# Altium footprint library AMP Footprints.PcbLib: 903 footprints (part 19 of 58)
Each footprint in its own frame and in the unit in brackets; x right, y up, seen from the top. Pads: shape width x height; smd on the part's side, far side on the other; paste and mask are expansions set on the pad; w line width, h text height; cw(c..) or ccw(c..) is an arc to the next point about the centre after c.
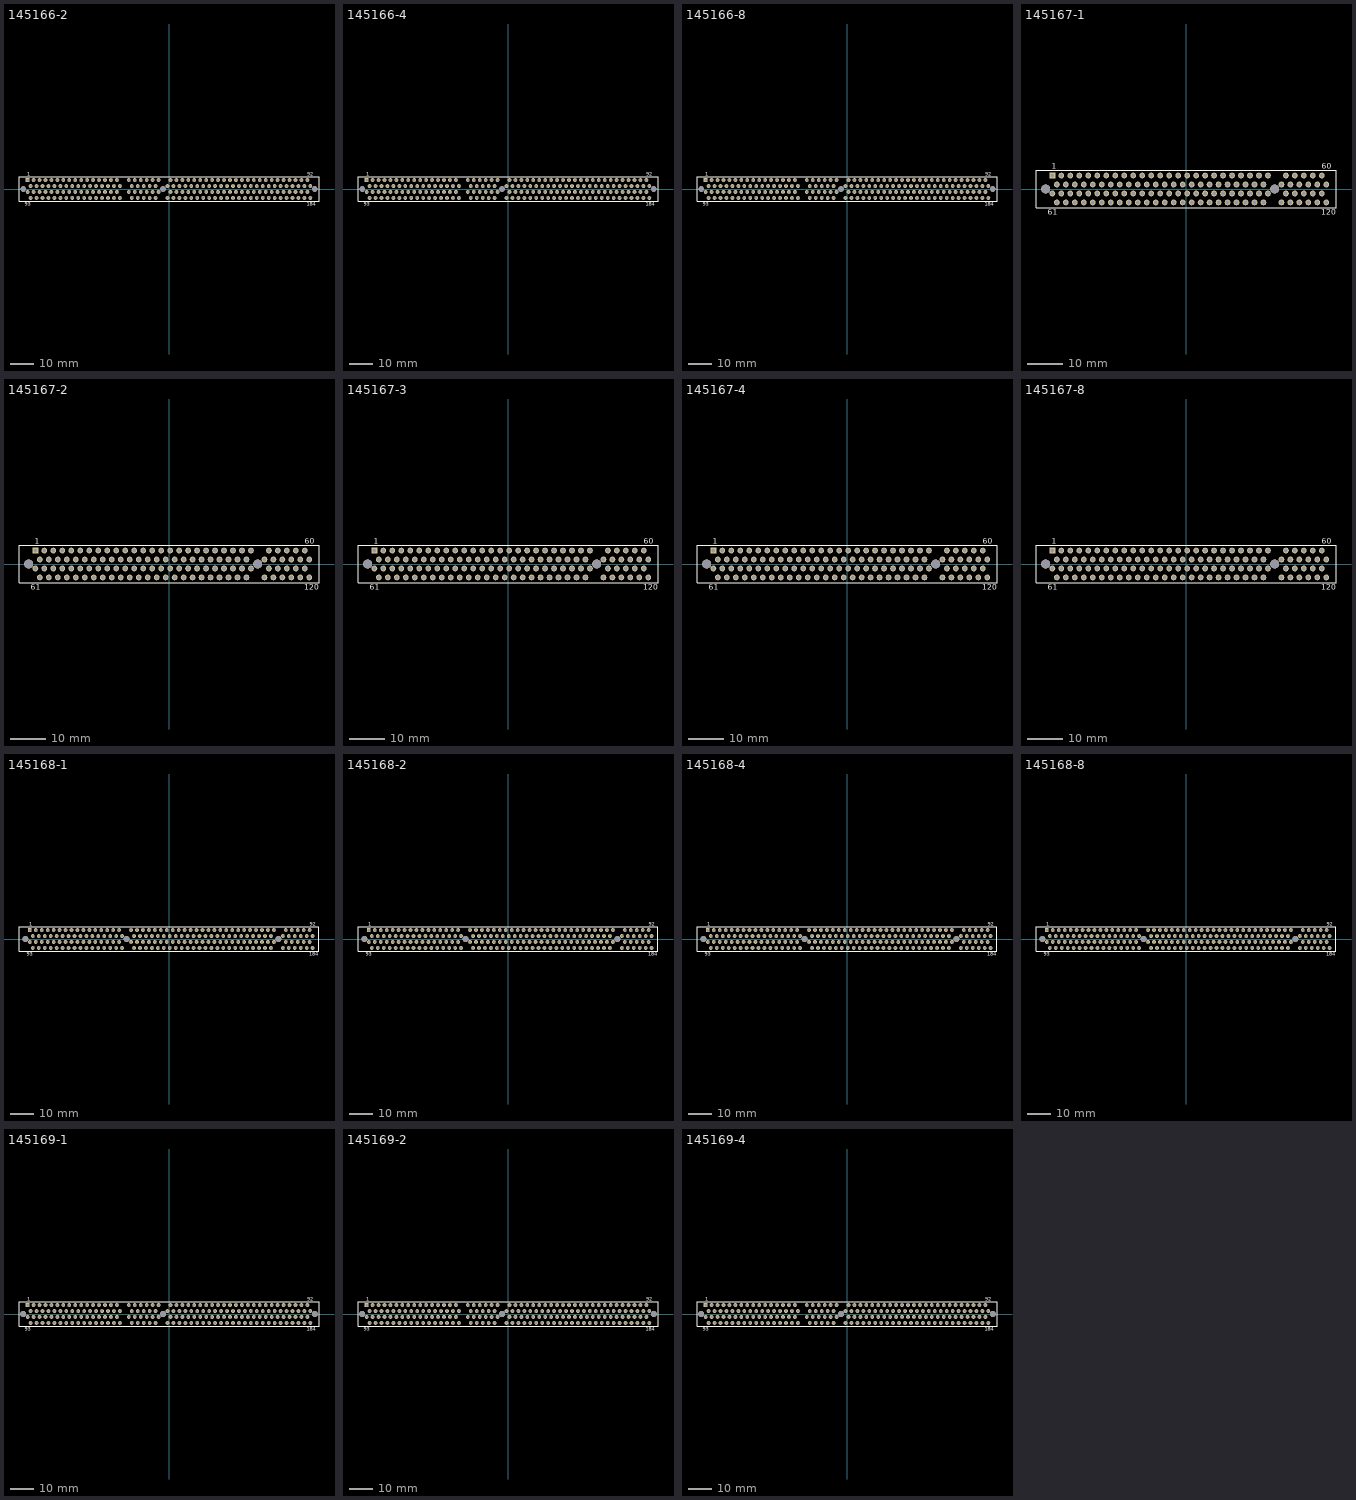
[diagram p18: the footprints below, top view; thin cyan lines are the x and y axes]

## 145166-2 [mm] "Connector; Card Edge .050 Series PCI; 2x92 Position; 64-Bit Bus"
height 15.74
pads (187):
  rect 1.62x1.62 hole 1.02: 1(-60.325,3.81)
  round 1.62 hole 1.02: 2(-59.055,1.27) 3(-57.785,3.81) 4(-56.515,1.27) 5(-55.245,3.81) 6(-53.975,1.27) 7(-52.705,3.81) 8(-51.435,1.27) 9(-50.165,3.81) 10(-48.895,1.27) 11(-47.625,3.81) 12(-46.355,1.27) 13(-45.085,3.81) 14(-43.815,1.27) 15(-42.545,3.81) 16(-41.275,1.27) 17(-40.005,3.81) 18(-38.735,1.27) 19(-37.465,3.81) 20(-36.195,1.27) 21(-34.925,3.81) 22(-33.655,1.27) 23(-32.385,3.81) 24(-31.115,1.27) 25(-29.845,3.81) 26(-28.575,1.27) 27(-27.305,3.81) 28(-26.035,1.27) 29(-24.765,3.81) 30(-23.495,1.27) 31(-22.225,3.81) 32(-20.955,1.27) 33(-17.145,3.81) 34(-15.875,1.27) 35(-14.605,3.81) 36(-13.335,1.27) 37(-12.065,3.81) 38(-10.795,1.27) 39(-9.525,3.81) 40(-8.255,1.27) 41(-6.985,3.81) 42(-5.715,1.27) 43(-4.445,3.81) 44(-0.635,1.27) 45(0.635,3.81) 46(1.905,1.27) 47(3.175,3.81) 48(4.445,1.27) 49(5.715,3.81) 50(6.985,1.27) 51(8.255,3.81) 52(9.525,1.27) 53(10.795,3.81) 54(12.065,1.27) 55(13.335,3.81) 56(14.605,1.27) 57(15.875,3.81) 58(17.145,1.27) 59(18.415,3.81) 60(19.685,1.27) 61(20.955,3.81) 62(22.225,1.27) 63(23.495,3.81) 64(24.765,1.27) 65(26.035,3.81) 66(27.305,1.27) 67(28.575,3.81) 68(29.845,1.27) 69(31.115,3.81) 70(32.385,1.27) 71(33.655,3.81) 72(34.925,1.27) 73(36.195,3.81) 74(37.465,1.27) 75(38.735,3.81) 76(40.005,1.27) 77(41.275,3.81) 78(42.545,1.27) 79(43.815,3.81) 80(45.085,1.27) 81(46.355,3.81) 82(47.625,1.27) 83(48.895,3.81) 84(50.165,1.27) 85(51.435,3.81) 86(52.705,1.27) 87(53.975,3.81) 88(55.245,1.27) 89(56.515,3.81) 90(57.785,1.27) 91(59.055,3.81) 92(60.325,1.27) 93(-60.325,-1.27) 94(-59.055,-3.81) 95(-57.785,-1.27) 96(-56.515,-3.81) 97(-55.245,-1.27) 98(-53.975,-3.81) 99(-52.705,-1.27) 100(-51.435,-3.81) 101(-50.165,-1.27) 102(-48.895,-3.81) 103(-47.625,-1.27) 104(-46.355,-3.81) 105(-45.085,-1.27) 106(-43.815,-3.81) 107(-42.545,-1.27) 108(-41.275,-3.81) 109(-40.005,-1.27) 110(-38.735,-3.81) 111(-37.465,-1.27) 112(-36.195,-3.81) 113(-34.925,-1.27) 114(-33.655,-3.81) 115(-32.385,-1.27) 116(-31.115,-3.81) 117(-29.845,-1.27) 118(-28.575,-3.81) 119(-27.305,-1.27) 120(-26.035,-3.81) 121(-24.765,-1.27) 122(-23.495,-3.81) 123(-22.225,-1.27) 124(-20.955,-3.81) 125(-17.145,-1.27) 126(-15.875,-3.81) 127(-14.605,-1.27) 128(-13.335,-3.81) 129(-12.065,-1.27) 130(-10.795,-3.81) 131(-9.525,-1.27) 132(-8.255,-3.81) 133(-6.985,-1.27) 134(-5.715,-3.81) 135(-4.445,-1.27) 136(-0.635,-3.81) 137(0.635,-1.27) 138(1.905,-3.81) 139(3.175,-1.27) 140(4.445,-3.81) 141(5.715,-1.27) 142(6.985,-3.81) 143(8.255,-1.27) 144(9.525,-3.81) 145(10.795,-1.27) 146(12.065,-3.81) 147(13.335,-1.27) 148(14.605,-3.81) 149(15.875,-1.27) 150(17.145,-3.81) 151(18.415,-1.27) 152(19.685,-3.81) 153(20.955,-1.27) 154(22.225,-3.81) 155(23.495,-1.27) 156(24.765,-3.81) 157(26.035,-1.27) 158(27.305,-3.81) 159(28.575,-1.27) 160(29.845,-3.81) 161(31.115,-1.27) 162(32.385,-3.81) 163(33.655,-1.27) 164(34.925,-3.81) 165(36.195,-1.27) 166(37.465,-3.81) 167(38.735,-1.27) 168(40.005,-3.81) 169(41.275,-1.27) 170(42.545,-3.81) 171(43.815,-1.27) 172(45.085,-3.81) 173(46.355,-1.27) 174(47.625,-3.81) 175(48.895,-1.27) 176(50.165,-3.81) 177(51.435,-1.27) 178(52.705,-3.81) 179(53.975,-1.27) 180(55.245,-3.81) 181(56.515,-1.27) 182(57.785,-3.81) 183(59.055,-1.27) 184(60.325,-3.81)
  round 2.14 hole 2.44: 185(-62.23,0) 186(-2.54,0) 187(62.23,0)
Top Overlay:
  lines w0.2: -64.01,-5.26 64.01,-5.26 64.01,5.26 -64.01,5.26 -64.01,-5.26
  text "92" at 59.075,5.735 h1.5
  text "184" at 58.825,-7.235 h1.5
  text "93" at -61.575,-7.235 h1.5
  text "1" at -60.575,5.735 h1.5

## 145166-4 [mm] "Connector; Card Edge .050 Series PCI; 2x92 Position; 64-Bit Bus"
height 15.74
pads (187):
  rect 1.62x1.62 hole 1.02: 1(-60.325,3.81)
  round 1.62 hole 1.02: 2(-59.055,1.27) 3(-57.785,3.81) 4(-56.515,1.27) 5(-55.245,3.81) 6(-53.975,1.27) 7(-52.705,3.81) 8(-51.435,1.27) 9(-50.165,3.81) 10(-48.895,1.27) 11(-47.625,3.81) 12(-46.355,1.27) 13(-45.085,3.81) 14(-43.815,1.27) 15(-42.545,3.81) 16(-41.275,1.27) 17(-40.005,3.81) 18(-38.735,1.27) 19(-37.465,3.81) 20(-36.195,1.27) 21(-34.925,3.81) 22(-33.655,1.27) 23(-32.385,3.81) 24(-31.115,1.27) 25(-29.845,3.81) 26(-28.575,1.27) 27(-27.305,3.81) 28(-26.035,1.27) 29(-24.765,3.81) 30(-23.495,1.27) 31(-22.225,3.81) 32(-20.955,1.27) 33(-17.145,3.81) 34(-15.875,1.27) 35(-14.605,3.81) 36(-13.335,1.27) 37(-12.065,3.81) 38(-10.795,1.27) 39(-9.525,3.81) 40(-8.255,1.27) 41(-6.985,3.81) 42(-5.715,1.27) 43(-4.445,3.81) 44(-0.635,1.27) 45(0.635,3.81) 46(1.905,1.27) 47(3.175,3.81) 48(4.445,1.27) 49(5.715,3.81) 50(6.985,1.27) 51(8.255,3.81) 52(9.525,1.27) 53(10.795,3.81) 54(12.065,1.27) 55(13.335,3.81) 56(14.605,1.27) 57(15.875,3.81) 58(17.145,1.27) 59(18.415,3.81) 60(19.685,1.27) 61(20.955,3.81) 62(22.225,1.27) 63(23.495,3.81) 64(24.765,1.27) 65(26.035,3.81) 66(27.305,1.27) 67(28.575,3.81) 68(29.845,1.27) 69(31.115,3.81) 70(32.385,1.27) 71(33.655,3.81) 72(34.925,1.27) 73(36.195,3.81) 74(37.465,1.27) 75(38.735,3.81) 76(40.005,1.27) 77(41.275,3.81) 78(42.545,1.27) 79(43.815,3.81) 80(45.085,1.27) 81(46.355,3.81) 82(47.625,1.27) 83(48.895,3.81) 84(50.165,1.27) 85(51.435,3.81) 86(52.705,1.27) 87(53.975,3.81) 88(55.245,1.27) 89(56.515,3.81) 90(57.785,1.27) 91(59.055,3.81) 92(60.325,1.27) 93(-60.325,-1.27) 94(-59.055,-3.81) 95(-57.785,-1.27) 96(-56.515,-3.81) 97(-55.245,-1.27) 98(-53.975,-3.81) 99(-52.705,-1.27) 100(-51.435,-3.81) 101(-50.165,-1.27) 102(-48.895,-3.81) 103(-47.625,-1.27) 104(-46.355,-3.81) 105(-45.085,-1.27) 106(-43.815,-3.81) 107(-42.545,-1.27) 108(-41.275,-3.81) 109(-40.005,-1.27) 110(-38.735,-3.81) 111(-37.465,-1.27) 112(-36.195,-3.81) 113(-34.925,-1.27) 114(-33.655,-3.81) 115(-32.385,-1.27) 116(-31.115,-3.81) 117(-29.845,-1.27) 118(-28.575,-3.81) 119(-27.305,-1.27) 120(-26.035,-3.81) 121(-24.765,-1.27) 122(-23.495,-3.81) 123(-22.225,-1.27) 124(-20.955,-3.81) 125(-17.145,-1.27) 126(-15.875,-3.81) 127(-14.605,-1.27) 128(-13.335,-3.81) 129(-12.065,-1.27) 130(-10.795,-3.81) 131(-9.525,-1.27) 132(-8.255,-3.81) 133(-6.985,-1.27) 134(-5.715,-3.81) 135(-4.445,-1.27) 136(-0.635,-3.81) 137(0.635,-1.27) 138(1.905,-3.81) 139(3.175,-1.27) 140(4.445,-3.81) 141(5.715,-1.27) 142(6.985,-3.81) 143(8.255,-1.27) 144(9.525,-3.81) 145(10.795,-1.27) 146(12.065,-3.81) 147(13.335,-1.27) 148(14.605,-3.81) 149(15.875,-1.27) 150(17.145,-3.81) 151(18.415,-1.27) 152(19.685,-3.81) 153(20.955,-1.27) 154(22.225,-3.81) 155(23.495,-1.27) 156(24.765,-3.81) 157(26.035,-1.27) 158(27.305,-3.81) 159(28.575,-1.27) 160(29.845,-3.81) 161(31.115,-1.27) 162(32.385,-3.81) 163(33.655,-1.27) 164(34.925,-3.81) 165(36.195,-1.27) 166(37.465,-3.81) 167(38.735,-1.27) 168(40.005,-3.81) 169(41.275,-1.27) 170(42.545,-3.81) 171(43.815,-1.27) 172(45.085,-3.81) 173(46.355,-1.27) 174(47.625,-3.81) 175(48.895,-1.27) 176(50.165,-3.81) 177(51.435,-1.27) 178(52.705,-3.81) 179(53.975,-1.27) 180(55.245,-3.81) 181(56.515,-1.27) 182(57.785,-3.81) 183(59.055,-1.27) 184(60.325,-3.81)
  round 2.14 hole 2.44: 185(-62.23,0) 186(-2.54,0) 187(62.23,0)
Top Overlay:
  lines w0.2: -64.01,-5.26 64.01,-5.26 64.01,5.26 -64.01,5.26 -64.01,-5.26
  text "92" at 59.075,5.735 h1.5
  text "184" at 58.825,-7.235 h1.5
  text "93" at -61.575,-7.235 h1.5
  text "1" at -60.575,5.735 h1.5

## 145166-8 [mm] "Connector; Card Edge .050 Series PCI; 2x92 Position; 64-Bit Bus"
height 15.74
pads (187):
  rect 1.62x1.62 hole 1.02: 1(-60.325,3.81)
  round 1.62 hole 1.02: 2(-59.055,1.27) 3(-57.785,3.81) 4(-56.515,1.27) 5(-55.245,3.81) 6(-53.975,1.27) 7(-52.705,3.81) 8(-51.435,1.27) 9(-50.165,3.81) 10(-48.895,1.27) 11(-47.625,3.81) 12(-46.355,1.27) 13(-45.085,3.81) 14(-43.815,1.27) 15(-42.545,3.81) 16(-41.275,1.27) 17(-40.005,3.81) 18(-38.735,1.27) 19(-37.465,3.81) 20(-36.195,1.27) 21(-34.925,3.81) 22(-33.655,1.27) 23(-32.385,3.81) 24(-31.115,1.27) 25(-29.845,3.81) 26(-28.575,1.27) 27(-27.305,3.81) 28(-26.035,1.27) 29(-24.765,3.81) 30(-23.495,1.27) 31(-22.225,3.81) 32(-20.955,1.27) 33(-17.145,3.81) 34(-15.875,1.27) 35(-14.605,3.81) 36(-13.335,1.27) 37(-12.065,3.81) 38(-10.795,1.27) 39(-9.525,3.81) 40(-8.255,1.27) 41(-6.985,3.81) 42(-5.715,1.27) 43(-4.445,3.81) 44(-0.635,1.27) 45(0.635,3.81) 46(1.905,1.27) 47(3.175,3.81) 48(4.445,1.27) 49(5.715,3.81) 50(6.985,1.27) 51(8.255,3.81) 52(9.525,1.27) 53(10.795,3.81) 54(12.065,1.27) 55(13.335,3.81) 56(14.605,1.27) 57(15.875,3.81) 58(17.145,1.27) 59(18.415,3.81) 60(19.685,1.27) 61(20.955,3.81) 62(22.225,1.27) 63(23.495,3.81) 64(24.765,1.27) 65(26.035,3.81) 66(27.305,1.27) 67(28.575,3.81) 68(29.845,1.27) 69(31.115,3.81) 70(32.385,1.27) 71(33.655,3.81) 72(34.925,1.27) 73(36.195,3.81) 74(37.465,1.27) 75(38.735,3.81) 76(40.005,1.27) 77(41.275,3.81) 78(42.545,1.27) 79(43.815,3.81) 80(45.085,1.27) 81(46.355,3.81) 82(47.625,1.27) 83(48.895,3.81) 84(50.165,1.27) 85(51.435,3.81) 86(52.705,1.27) 87(53.975,3.81) 88(55.245,1.27) 89(56.515,3.81) 90(57.785,1.27) 91(59.055,3.81) 92(60.325,1.27) 93(-60.325,-1.27) 94(-59.055,-3.81) 95(-57.785,-1.27) 96(-56.515,-3.81) 97(-55.245,-1.27) 98(-53.975,-3.81) 99(-52.705,-1.27) 100(-51.435,-3.81) 101(-50.165,-1.27) 102(-48.895,-3.81) 103(-47.625,-1.27) 104(-46.355,-3.81) 105(-45.085,-1.27) 106(-43.815,-3.81) 107(-42.545,-1.27) 108(-41.275,-3.81) 109(-40.005,-1.27) 110(-38.735,-3.81) 111(-37.465,-1.27) 112(-36.195,-3.81) 113(-34.925,-1.27) 114(-33.655,-3.81) 115(-32.385,-1.27) 116(-31.115,-3.81) 117(-29.845,-1.27) 118(-28.575,-3.81) 119(-27.305,-1.27) 120(-26.035,-3.81) 121(-24.765,-1.27) 122(-23.495,-3.81) 123(-22.225,-1.27) 124(-20.955,-3.81) 125(-17.145,-1.27) 126(-15.875,-3.81) 127(-14.605,-1.27) 128(-13.335,-3.81) 129(-12.065,-1.27) 130(-10.795,-3.81) 131(-9.525,-1.27) 132(-8.255,-3.81) 133(-6.985,-1.27) 134(-5.715,-3.81) 135(-4.445,-1.27) 136(-0.635,-3.81) 137(0.635,-1.27) 138(1.905,-3.81) 139(3.175,-1.27) 140(4.445,-3.81) 141(5.715,-1.27) 142(6.985,-3.81) 143(8.255,-1.27) 144(9.525,-3.81) 145(10.795,-1.27) 146(12.065,-3.81) 147(13.335,-1.27) 148(14.605,-3.81) 149(15.875,-1.27) 150(17.145,-3.81) 151(18.415,-1.27) 152(19.685,-3.81) 153(20.955,-1.27) 154(22.225,-3.81) 155(23.495,-1.27) 156(24.765,-3.81) 157(26.035,-1.27) 158(27.305,-3.81) 159(28.575,-1.27) 160(29.845,-3.81) 161(31.115,-1.27) 162(32.385,-3.81) 163(33.655,-1.27) 164(34.925,-3.81) 165(36.195,-1.27) 166(37.465,-3.81) 167(38.735,-1.27) 168(40.005,-3.81) 169(41.275,-1.27) 170(42.545,-3.81) 171(43.815,-1.27) 172(45.085,-3.81) 173(46.355,-1.27) 174(47.625,-3.81) 175(48.895,-1.27) 176(50.165,-3.81) 177(51.435,-1.27) 178(52.705,-3.81) 179(53.975,-1.27) 180(55.245,-3.81) 181(56.515,-1.27) 182(57.785,-3.81) 183(59.055,-1.27) 184(60.325,-3.81)
  round 2.14 hole 2.44: 185(-62.23,0) 186(-2.54,0) 187(62.23,0)
Top Overlay:
  lines w0.2: -64.01,-5.26 64.01,-5.26 64.01,5.26 -64.01,5.26 -64.01,-5.26
  text "92" at 59.075,5.735 h1.5
  text "184" at 58.825,-7.235 h1.5
  text "93" at -61.575,-7.235 h1.5
  text "1" at -60.575,5.735 h1.5

## 145167-1 [mm] "Connector; Card Edge .050 Series PCI; 2x60 Position; 32-Bit Bus"
height 15.74
pads (122):
  rect 1.62x1.62 hole 1.02: 1(-37.782,3.81)
  round 1.62 hole 1.02: 2(-36.512,1.27) 3(-35.242,3.81) 4(-33.972,1.27) 5(-32.703,3.81) 6(-31.432,1.27) 7(-30.162,3.81) 8(-28.892,1.27) 9(-27.622,3.81) 10(-26.352,1.27) 11(-25.082,3.81) 12(-23.812,1.27) 13(-22.543,3.81) 14(-21.273,1.27) 15(-20.002,3.81) 16(-18.732,1.27) 17(-17.462,3.81) 18(-16.192,1.27) 19(-14.922,3.81) 20(-13.652,1.27) 21(-12.383,3.81) 22(-11.112,1.27) 23(-9.842,3.81) 24(-8.572,1.27) 25(-7.302,3.81) 26(-6.032,1.27) 27(-4.763,3.81) 28(-3.492,1.27) 29(-2.222,3.81) 30(-0.953,1.27) 31(0.318,3.81) 32(1.587,1.27) 33(2.857,3.81) 34(4.127,1.27) 35(5.397,3.81) 36(6.667,1.27) 37(7.938,3.81) 38(9.207,1.27) 39(10.477,3.81) 40(11.747,1.27) 41(13.018,3.81) 42(14.287,1.27) 43(15.557,3.81) 44(16.828,1.27) 45(18.098,3.81) 46(19.367,1.27) 47(20.637,3.81) 48(21.907,1.27) 49(23.177,3.81) 50(26.987,1.27) 51(28.258,3.81) 52(29.527,1.27) 53(30.797,3.81) 54(32.067,1.27) 55(33.337,3.81) 56(34.608,1.27) 57(35.877,3.81) 58(37.148,1.27) 59(38.417,3.81) 60(39.688,1.27) 61(-37.782,-1.27) 62(-36.512,-3.81) 63(-35.242,-1.27) 64(-33.972,-3.81) 65(-32.703,-1.27) 66(-31.432,-3.81) 67(-30.162,-1.27) 68(-28.892,-3.81) 69(-27.622,-1.27) 70(-26.352,-3.81) 71(-25.082,-1.27) 72(-23.812,-3.81) 73(-22.543,-1.27) 74(-21.273,-3.81) 75(-20.002,-1.27) 76(-18.732,-3.81) 77(-17.462,-1.27) 78(-16.192,-3.81) 79(-14.922,-1.27) 80(-13.652,-3.81) 81(-12.383,-1.27) 82(-11.112,-3.81) 83(-9.842,-1.27) 84(-8.572,-3.81) 85(-7.302,-1.27) 86(-6.032,-3.81) 87(-4.763,-1.27) 88(-3.492,-3.81) 89(-2.222,-1.27) 90(-0.953,-3.81) 91(0.318,-1.27) 92(1.587,-3.81) 93(2.857,-1.27) 94(4.127,-3.81) 95(5.397,-1.27) 96(6.667,-3.81) 97(7.938,-1.27) 98(9.207,-3.81) 99(10.477,-1.27) 100(11.747,-3.81) 101(13.018,-1.27) 102(14.287,-3.81) 103(15.557,-1.27) 104(16.828,-3.81) 105(18.098,-1.27) 106(19.367,-3.81) 107(20.637,-1.27) 108(21.907,-3.81) 109(23.177,-1.27) 110(26.987,-3.81) 111(28.258,-1.27) 112(29.527,-3.81) 113(30.797,-1.27) 114(32.067,-3.81) 115(33.337,-1.27) 116(34.608,-3.81) 117(35.877,-1.27) 118(37.148,-3.81) 119(38.417,-1.27) 120(39.688,-3.81)
  round 2.55 hole 2.44: 121(-39.688,0) 122(25.082,0)
Top Overlay:
  lines w0.2: -42.42,-5.26 -42.42,5.26 42.42,5.26 42.42,-5.26 -42.42,-5.26
  text "61" at -39.033,-7.235 h1.5
  text "1" at -38.032,5.735 h1.5
  text "60" at 38.437,5.735 h1.5
  text "120" at 38.188,-7.235 h1.5

## 145167-2 [mm] "Connector; Card Edge .050 Series PCI; 2x60 Position; 32-Bit Bus"
height 15.74
pads (122):
  rect 1.62x1.62 hole 1.02: 1(-37.782,3.81)
  round 1.62 hole 1.02: 2(-36.512,1.27) 3(-35.242,3.81) 4(-33.972,1.27) 5(-32.703,3.81) 6(-31.432,1.27) 7(-30.162,3.81) 8(-28.892,1.27) 9(-27.622,3.81) 10(-26.352,1.27) 11(-25.082,3.81) 12(-23.812,1.27) 13(-22.543,3.81) 14(-21.273,1.27) 15(-20.002,3.81) 16(-18.732,1.27) 17(-17.462,3.81) 18(-16.192,1.27) 19(-14.922,3.81) 20(-13.652,1.27) 21(-12.383,3.81) 22(-11.112,1.27) 23(-9.842,3.81) 24(-8.572,1.27) 25(-7.302,3.81) 26(-6.032,1.27) 27(-4.763,3.81) 28(-3.492,1.27) 29(-2.222,3.81) 30(-0.953,1.27) 31(0.318,3.81) 32(1.587,1.27) 33(2.857,3.81) 34(4.127,1.27) 35(5.397,3.81) 36(6.667,1.27) 37(7.938,3.81) 38(9.207,1.27) 39(10.477,3.81) 40(11.747,1.27) 41(13.018,3.81) 42(14.287,1.27) 43(15.557,3.81) 44(16.828,1.27) 45(18.098,3.81) 46(19.367,1.27) 47(20.637,3.81) 48(21.907,1.27) 49(23.177,3.81) 50(26.987,1.27) 51(28.258,3.81) 52(29.527,1.27) 53(30.797,3.81) 54(32.067,1.27) 55(33.337,3.81) 56(34.608,1.27) 57(35.877,3.81) 58(37.148,1.27) 59(38.417,3.81) 60(39.688,1.27) 61(-37.782,-1.27) 62(-36.512,-3.81) 63(-35.242,-1.27) 64(-33.972,-3.81) 65(-32.703,-1.27) 66(-31.432,-3.81) 67(-30.162,-1.27) 68(-28.892,-3.81) 69(-27.622,-1.27) 70(-26.352,-3.81) 71(-25.082,-1.27) 72(-23.812,-3.81) 73(-22.543,-1.27) 74(-21.273,-3.81) 75(-20.002,-1.27) 76(-18.732,-3.81) 77(-17.462,-1.27) 78(-16.192,-3.81) 79(-14.922,-1.27) 80(-13.652,-3.81) 81(-12.383,-1.27) 82(-11.112,-3.81) 83(-9.842,-1.27) 84(-8.572,-3.81) 85(-7.302,-1.27) 86(-6.032,-3.81) 87(-4.763,-1.27) 88(-3.492,-3.81) 89(-2.222,-1.27) 90(-0.953,-3.81) 91(0.318,-1.27) 92(1.587,-3.81) 93(2.857,-1.27) 94(4.127,-3.81) 95(5.397,-1.27) 96(6.667,-3.81) 97(7.938,-1.27) 98(9.207,-3.81) 99(10.477,-1.27) 100(11.747,-3.81) 101(13.018,-1.27) 102(14.287,-3.81) 103(15.557,-1.27) 104(16.828,-3.81) 105(18.098,-1.27) 106(19.367,-3.81) 107(20.637,-1.27) 108(21.907,-3.81) 109(23.177,-1.27) 110(26.987,-3.81) 111(28.258,-1.27) 112(29.527,-3.81) 113(30.797,-1.27) 114(32.067,-3.81) 115(33.337,-1.27) 116(34.608,-3.81) 117(35.877,-1.27) 118(37.148,-3.81) 119(38.417,-1.27) 120(39.688,-3.81)
  round 2.55 hole 2.44: 121(-39.688,0) 122(25.082,0)
Top Overlay:
  lines w0.2: -42.42,-5.26 42.42,-5.26 42.42,5.26 -42.42,5.26 -42.42,-5.26
  text "120" at 38.188,-7.235 h1.5
  text "60" at 38.437,5.735 h1.5
  text "1" at -38.032,5.735 h1.5
  text "61" at -39.033,-7.235 h1.5

## 145167-3 [mm] "Connector; Card Edge .050 Series PCI; 2x60 Position; 32-Bit Bus"
height 15.74
pads (122):
  rect 1.62x1.62 hole 1.02: 1(-37.782,3.81)
  round 1.62 hole 1.02: 2(-36.512,1.27) 3(-35.242,3.81) 4(-33.972,1.27) 5(-32.703,3.81) 6(-31.432,1.27) 7(-30.162,3.81) 8(-28.892,1.27) 9(-27.622,3.81) 10(-26.352,1.27) 11(-25.082,3.81) 12(-23.812,1.27) 13(-22.543,3.81) 14(-21.273,1.27) 15(-20.002,3.81) 16(-18.732,1.27) 17(-17.462,3.81) 18(-16.192,1.27) 19(-14.922,3.81) 20(-13.652,1.27) 21(-12.383,3.81) 22(-11.112,1.27) 23(-9.842,3.81) 24(-8.572,1.27) 25(-7.302,3.81) 26(-6.032,1.27) 27(-4.763,3.81) 28(-3.492,1.27) 29(-2.222,3.81) 30(-0.953,1.27) 31(0.318,3.81) 32(1.587,1.27) 33(2.857,3.81) 34(4.127,1.27) 35(5.397,3.81) 36(6.667,1.27) 37(7.938,3.81) 38(9.207,1.27) 39(10.477,3.81) 40(11.747,1.27) 41(13.018,3.81) 42(14.287,1.27) 43(15.557,3.81) 44(16.828,1.27) 45(18.098,3.81) 46(19.367,1.27) 47(20.637,3.81) 48(21.907,1.27) 49(23.177,3.81) 50(26.987,1.27) 51(28.258,3.81) 52(29.527,1.27) 53(30.797,3.81) 54(32.067,1.27) 55(33.337,3.81) 56(34.608,1.27) 57(35.877,3.81) 58(37.148,1.27) 59(38.417,3.81) 60(39.688,1.27) 61(-37.782,-1.27) 62(-36.512,-3.81) 63(-35.242,-1.27) 64(-33.972,-3.81) 65(-32.703,-1.27) 66(-31.432,-3.81) 67(-30.162,-1.27) 68(-28.892,-3.81) 69(-27.622,-1.27) 70(-26.352,-3.81) 71(-25.082,-1.27) 72(-23.812,-3.81) 73(-22.543,-1.27) 74(-21.273,-3.81) 75(-20.002,-1.27) 76(-18.732,-3.81) 77(-17.462,-1.27) 78(-16.192,-3.81) 79(-14.922,-1.27) 80(-13.652,-3.81) 81(-12.383,-1.27) 82(-11.112,-3.81) 83(-9.842,-1.27) 84(-8.572,-3.81) 85(-7.302,-1.27) 86(-6.032,-3.81) 87(-4.763,-1.27) 88(-3.492,-3.81) 89(-2.222,-1.27) 90(-0.953,-3.81) 91(0.318,-1.27) 92(1.587,-3.81) 93(2.857,-1.27) 94(4.127,-3.81) 95(5.397,-1.27) 96(6.667,-3.81) 97(7.938,-1.27) 98(9.207,-3.81) 99(10.477,-1.27) 100(11.747,-3.81) 101(13.018,-1.27) 102(14.287,-3.81) 103(15.557,-1.27) 104(16.828,-3.81) 105(18.098,-1.27) 106(19.367,-3.81) 107(20.637,-1.27) 108(21.907,-3.81) 109(23.177,-1.27) 110(26.987,-3.81) 111(28.258,-1.27) 112(29.527,-3.81) 113(30.797,-1.27) 114(32.067,-3.81) 115(33.337,-1.27) 116(34.608,-3.81) 117(35.877,-1.27) 118(37.148,-3.81) 119(38.417,-1.27) 120(39.688,-3.81)
  round 2.55 hole 2.44: 121(-39.688,0) 122(25.082,0)
Top Overlay:
  lines w0.2: -42.42,-5.26 -42.42,5.26 42.42,5.26 42.42,-5.26 -42.42,-5.26
  text "61" at -39.033,-7.235 h1.5
  text "1" at -38.032,5.735 h1.5
  text "60" at 38.437,5.735 h1.5
  text "120" at 38.188,-7.235 h1.5

## 145167-4 [mm] "Connector; Card Edge .050 Series PCI; 2x60 Position; 32-Bit Bus"
height 15.74
pads (122):
  rect 1.62x1.62 hole 1.02: 1(-37.782,3.81)
  round 1.62 hole 1.02: 2(-36.512,1.27) 3(-35.242,3.81) 4(-33.972,1.27) 5(-32.703,3.81) 6(-31.432,1.27) 7(-30.162,3.81) 8(-28.892,1.27) 9(-27.622,3.81) 10(-26.352,1.27) 11(-25.082,3.81) 12(-23.812,1.27) 13(-22.543,3.81) 14(-21.273,1.27) 15(-20.002,3.81) 16(-18.732,1.27) 17(-17.462,3.81) 18(-16.192,1.27) 19(-14.922,3.81) 20(-13.652,1.27) 21(-12.383,3.81) 22(-11.112,1.27) 23(-9.842,3.81) 24(-8.572,1.27) 25(-7.302,3.81) 26(-6.032,1.27) 27(-4.763,3.81) 28(-3.492,1.27) 29(-2.222,3.81) 30(-0.953,1.27) 31(0.318,3.81) 32(1.587,1.27) 33(2.857,3.81) 34(4.127,1.27) 35(5.397,3.81) 36(6.667,1.27) 37(7.938,3.81) 38(9.207,1.27) 39(10.477,3.81) 40(11.747,1.27) 41(13.018,3.81) 42(14.287,1.27) 43(15.557,3.81) 44(16.828,1.27) 45(18.098,3.81) 46(19.367,1.27) 47(20.637,3.81) 48(21.907,1.27) 49(23.177,3.81) 50(26.987,1.27) 51(28.258,3.81) 52(29.527,1.27) 53(30.797,3.81) 54(32.067,1.27) 55(33.337,3.81) 56(34.608,1.27) 57(35.877,3.81) 58(37.148,1.27) 59(38.417,3.81) 60(39.688,1.27) 61(-37.782,-1.27) 62(-36.512,-3.81) 63(-35.242,-1.27) 64(-33.972,-3.81) 65(-32.703,-1.27) 66(-31.432,-3.81) 67(-30.162,-1.27) 68(-28.892,-3.81) 69(-27.622,-1.27) 70(-26.352,-3.81) 71(-25.082,-1.27) 72(-23.812,-3.81) 73(-22.543,-1.27) 74(-21.273,-3.81) 75(-20.002,-1.27) 76(-18.732,-3.81) 77(-17.462,-1.27) 78(-16.192,-3.81) 79(-14.922,-1.27) 80(-13.652,-3.81) 81(-12.383,-1.27) 82(-11.112,-3.81) 83(-9.842,-1.27) 84(-8.572,-3.81) 85(-7.302,-1.27) 86(-6.032,-3.81) 87(-4.763,-1.27) 88(-3.492,-3.81) 89(-2.222,-1.27) 90(-0.953,-3.81) 91(0.318,-1.27) 92(1.587,-3.81) 93(2.857,-1.27) 94(4.127,-3.81) 95(5.397,-1.27) 96(6.667,-3.81) 97(7.938,-1.27) 98(9.207,-3.81) 99(10.477,-1.27) 100(11.747,-3.81) 101(13.018,-1.27) 102(14.287,-3.81) 103(15.557,-1.27) 104(16.828,-3.81) 105(18.098,-1.27) 106(19.367,-3.81) 107(20.637,-1.27) 108(21.907,-3.81) 109(23.177,-1.27) 110(26.987,-3.81) 111(28.258,-1.27) 112(29.527,-3.81) 113(30.797,-1.27) 114(32.067,-3.81) 115(33.337,-1.27) 116(34.608,-3.81) 117(35.877,-1.27) 118(37.148,-3.81) 119(38.417,-1.27) 120(39.688,-3.81)
  round 2.55 hole 2.44: 121(-39.688,0) 122(25.082,0)
Top Overlay:
  lines w0.2: -42.42,-5.26 42.42,-5.26 42.42,5.26 -42.42,5.26 -42.42,-5.26
  text "120" at 38.188,-7.235 h1.5
  text "60" at 38.437,5.735 h1.5
  text "1" at -38.032,5.735 h1.5
  text "61" at -39.033,-7.235 h1.5

## 145167-8 [mm] "Connector; Card Edge .050 Series PCI; 2x60 Position; 32-Bit Bus"
height 15.74
pads (122):
  rect 1.62x1.62 hole 1.02: 1(-37.782,3.81)
  round 1.62 hole 1.02: 2(-36.512,1.27) 3(-35.242,3.81) 4(-33.972,1.27) 5(-32.703,3.81) 6(-31.432,1.27) 7(-30.162,3.81) 8(-28.892,1.27) 9(-27.622,3.81) 10(-26.352,1.27) 11(-25.082,3.81) 12(-23.812,1.27) 13(-22.543,3.81) 14(-21.273,1.27) 15(-20.002,3.81) 16(-18.732,1.27) 17(-17.462,3.81) 18(-16.192,1.27) 19(-14.922,3.81) 20(-13.652,1.27) 21(-12.383,3.81) 22(-11.112,1.27) 23(-9.842,3.81) 24(-8.572,1.27) 25(-7.302,3.81) 26(-6.032,1.27) 27(-4.763,3.81) 28(-3.492,1.27) 29(-2.222,3.81) 30(-0.953,1.27) 31(0.318,3.81) 32(1.587,1.27) 33(2.857,3.81) 34(4.127,1.27) 35(5.397,3.81) 36(6.667,1.27) 37(7.938,3.81) 38(9.207,1.27) 39(10.477,3.81) 40(11.747,1.27) 41(13.018,3.81) 42(14.287,1.27) 43(15.557,3.81) 44(16.828,1.27) 45(18.098,3.81) 46(19.367,1.27) 47(20.637,3.81) 48(21.907,1.27) 49(23.177,3.81) 50(26.987,1.27) 51(28.258,3.81) 52(29.527,1.27) 53(30.797,3.81) 54(32.067,1.27) 55(33.337,3.81) 56(34.608,1.27) 57(35.877,3.81) 58(37.148,1.27) 59(38.417,3.81) 60(39.688,1.27) 61(-37.782,-1.27) 62(-36.512,-3.81) 63(-35.242,-1.27) 64(-33.972,-3.81) 65(-32.703,-1.27) 66(-31.432,-3.81) 67(-30.162,-1.27) 68(-28.892,-3.81) 69(-27.622,-1.27) 70(-26.352,-3.81) 71(-25.082,-1.27) 72(-23.812,-3.81) 73(-22.543,-1.27) 74(-21.273,-3.81) 75(-20.002,-1.27) 76(-18.732,-3.81) 77(-17.462,-1.27) 78(-16.192,-3.81) 79(-14.922,-1.27) 80(-13.652,-3.81) 81(-12.383,-1.27) 82(-11.112,-3.81) 83(-9.842,-1.27) 84(-8.572,-3.81) 85(-7.302,-1.27) 86(-6.032,-3.81) 87(-4.763,-1.27) 88(-3.492,-3.81) 89(-2.222,-1.27) 90(-0.953,-3.81) 91(0.318,-1.27) 92(1.587,-3.81) 93(2.857,-1.27) 94(4.127,-3.81) 95(5.397,-1.27) 96(6.667,-3.81) 97(7.938,-1.27) 98(9.207,-3.81) 99(10.477,-1.27) 100(11.747,-3.81) 101(13.018,-1.27) 102(14.287,-3.81) 103(15.557,-1.27) 104(16.828,-3.81) 105(18.098,-1.27) 106(19.367,-3.81) 107(20.637,-1.27) 108(21.907,-3.81) 109(23.177,-1.27) 110(26.987,-3.81) 111(28.258,-1.27) 112(29.527,-3.81) 113(30.797,-1.27) 114(32.067,-3.81) 115(33.337,-1.27) 116(34.608,-3.81) 117(35.877,-1.27) 118(37.148,-3.81) 119(38.417,-1.27) 120(39.688,-3.81)
  round 2.55 hole 2.44: 121(-39.688,0) 122(25.082,0)
Top Overlay:
  lines w0.2: -42.42,-5.26 -42.42,5.26 42.42,5.26 42.42,-5.26 -42.42,-5.26
  text "61" at -39.033,-7.235 h1.5
  text "1" at -38.032,5.735 h1.5
  text "60" at 38.437,5.735 h1.5
  text "120" at 38.188,-7.235 h1.5

## 145168-1 [mm] "Connector; Card Edge .050 Series PCI; 2x92 Position; 64-Bit Bus"
height 15.74
pads (187):
  rect 1.62x1.62 hole 1.02: 1(-59.372,3.81)
  round 1.62 hole 1.02: 2(-58.102,1.27) 3(-56.832,3.81) 4(-55.562,1.27) 5(-54.292,3.81) 6(-53.023,1.27) 7(-51.752,3.81) 8(-50.482,1.27) 9(-49.212,3.81) 10(-47.942,1.27) 11(-46.672,3.81) 12(-45.402,1.27) 13(-44.133,3.81) 14(-42.862,1.27) 15(-41.593,3.81) 16(-40.322,1.27) 17(-39.052,3.81) 18(-37.782,1.27) 19(-36.512,3.81) 20(-35.242,1.27) 21(-33.972,3.81) 22(-32.703,1.27) 23(-31.432,3.81) 24(-30.162,1.27) 25(-28.892,3.81) 26(-27.622,1.27) 27(-26.352,3.81) 28(-25.082,1.27) 29(-23.812,3.81) 30(-22.543,1.27) 31(-21.273,3.81) 32(-20.002,1.27) 33(-16.192,3.81) 34(-14.922,1.27) 35(-13.652,3.81) 36(-12.383,1.27) 37(-11.112,3.81) 38(-9.842,1.27) 39(-8.572,3.81) 40(-7.302,1.27) 41(-6.032,3.81) 42(-4.763,1.27) 43(-3.492,3.81) 44(-2.222,1.27) 45(-0.953,3.81) 46(0.318,1.27) 47(1.587,3.81) 48(2.857,1.27) 49(4.127,3.81) 50(5.397,1.27) 51(6.667,3.81) 52(7.938,1.27) 53(9.207,3.81) 54(10.477,1.27) 55(11.747,3.81) 56(13.018,1.27) 57(14.287,3.81) 58(15.557,1.27) 59(16.828,3.81) 60(18.098,1.27) 61(19.367,3.81) 62(20.637,1.27) 63(21.907,3.81) 64(23.177,1.27) 65(24.447,3.81) 66(25.717,1.27) 67(26.987,3.81) 68(28.258,1.27) 69(29.527,3.81) 70(30.797,1.27) 71(32.067,3.81) 72(33.337,1.27) 73(34.608,3.81) 74(35.877,1.27) 75(37.148,3.81) 76(38.417,1.27) 77(39.688,3.81) 78(40.957,1.27) 79(42.227,3.81) 80(43.497,1.27) 81(44.767,3.81) 82(48.578,1.27) 83(49.847,3.81) 84(51.117,1.27) 85(52.387,3.81) 86(53.657,1.27) 87(54.927,3.81) 88(56.197,1.27) 89(57.468,3.81) 90(58.737,1.27) 91(60.008,3.81) 92(61.277,1.27) 93(-59.372,-1.27) 94(-58.102,-3.81) 95(-56.832,-1.27) 96(-55.562,-3.81) 97(-54.292,-1.27) 98(-53.023,-3.81) 99(-51.752,-1.27) 100(-50.482,-3.81) 101(-49.212,-1.27) 102(-47.942,-3.81) 103(-46.672,-1.27) 104(-45.402,-3.81) 105(-44.133,-1.27) 106(-42.862,-3.81) 107(-41.593,-1.27) 108(-40.322,-3.81) 109(-39.052,-1.27) 110(-37.782,-3.81) 111(-36.512,-1.27) 112(-35.242,-3.81) 113(-33.972,-1.27) 114(-32.703,-3.81) 115(-31.432,-1.27) 116(-30.162,-3.81) 117(-28.892,-1.27) 118(-27.622,-3.81) 119(-26.352,-1.27) 120(-25.082,-3.81) 121(-23.812,-1.27) 122(-22.543,-3.81) 123(-21.273,-1.27) 124(-20.002,-3.81) 125(-16.192,-1.27) 126(-14.922,-3.81) 127(-13.652,-1.27) 128(-12.383,-3.81) 129(-11.112,-1.27) 130(-9.842,-3.81) 131(-8.572,-1.27) 132(-7.302,-3.81) 133(-6.032,-1.27) 134(-4.763,-3.81) 135(-3.492,-1.27) 136(-2.222,-3.81) 137(-0.953,-1.27) 138(0.318,-3.81) 139(1.587,-1.27) 140(2.857,-3.81) 141(4.127,-1.27) 142(5.397,-3.81) 143(6.667,-1.27) 144(7.938,-3.81) 145(9.207,-1.27) 146(10.477,-3.81) 147(11.747,-1.27) 148(13.018,-3.81) 149(14.287,-1.27) 150(15.557,-3.81) 151(16.828,-1.27) 152(18.098,-3.81) 153(19.367,-1.27) 154(20.637,-3.81) 155(21.907,-1.27) 156(23.177,-3.81) 157(24.447,-1.27) 158(25.717,-3.81) 159(26.987,-1.27) 160(28.258,-3.81) 161(29.527,-1.27) 162(30.797,-3.81) 163(32.067,-1.27) 164(33.337,-3.81) 165(34.608,-1.27) 166(35.877,-3.81) 167(37.148,-1.27) 168(38.417,-3.81) 169(39.688,-1.27) 170(40.957,-3.81) 171(42.227,-1.27) 172(43.497,-3.81) 173(44.767,-1.27) 174(48.578,-3.81) 175(49.847,-1.27) 176(51.117,-3.81) 177(52.387,-1.27) 178(53.657,-3.81) 179(54.927,-1.27) 180(56.197,-3.81) 181(57.468,-1.27) 182(58.737,-3.81) 183(60.008,-1.27) 184(61.277,-3.81)
  round 2.56 hole 2.44: 185(-61.277,0) 186(-18.098,0) 187(46.672,0)
Top Overlay:
  lines w0.2: -64,-5.26 -64,5.26 64,5.26 64,-5.26 -64,-5.26
  text "92" at 60.027,5.735 h1.5
  text "184" at 59.778,-7.235 h1.5
  text "93" at -60.623,-7.235 h1.5
  text "1" at -59.622,5.735 h1.5

## 145168-2 [mm] "Connector; Card Edge .050 Series PCI; 2x92 Position; 64-Bit Bus"
height 15.74
pads (187):
  rect 1.62x1.62 hole 1.02: 1(-59.372,3.81)
  round 1.62 hole 1.02: 2(-58.102,1.27) 3(-56.832,3.81) 4(-55.562,1.27) 5(-54.292,3.81) 6(-53.023,1.27) 7(-51.752,3.81) 8(-50.482,1.27) 9(-49.212,3.81) 10(-47.942,1.27) 11(-46.672,3.81) 12(-45.402,1.27) 13(-44.133,3.81) 14(-42.862,1.27) 15(-41.593,3.81) 16(-40.322,1.27) 17(-39.052,3.81) 18(-37.782,1.27) 19(-36.512,3.81) 20(-35.242,1.27) 21(-33.972,3.81) 22(-32.703,1.27) 23(-31.432,3.81) 24(-30.162,1.27) 25(-28.892,3.81) 26(-27.622,1.27) 27(-26.352,3.81) 28(-25.082,1.27) 29(-23.812,3.81) 30(-22.543,1.27) 31(-21.273,3.81) 32(-20.002,1.27) 33(-16.192,3.81) 34(-14.922,1.27) 35(-13.652,3.81) 36(-12.383,1.27) 37(-11.112,3.81) 38(-9.842,1.27) 39(-8.572,3.81) 40(-7.302,1.27) 41(-6.032,3.81) 42(-4.763,1.27) 43(-3.492,3.81) 44(-2.222,1.27) 45(-0.953,3.81) 46(0.318,1.27) 47(1.587,3.81) 48(2.857,1.27) 49(4.127,3.81) 50(5.397,1.27) 51(6.667,3.81) 52(7.938,1.27) 53(9.207,3.81) 54(10.477,1.27) 55(11.747,3.81) 56(13.018,1.27) 57(14.287,3.81) 58(15.557,1.27) 59(16.828,3.81) 60(18.098,1.27) 61(19.367,3.81) 62(20.637,1.27) 63(21.907,3.81) 64(23.177,1.27) 65(24.447,3.81) 66(25.717,1.27) 67(26.987,3.81) 68(28.258,1.27) 69(29.527,3.81) 70(30.797,1.27) 71(32.067,3.81) 72(33.337,1.27) 73(34.608,3.81) 74(35.877,1.27) 75(37.148,3.81) 76(38.417,1.27) 77(39.688,3.81) 78(40.957,1.27) 79(42.227,3.81) 80(43.497,1.27) 81(44.767,3.81) 82(48.578,1.27) 83(49.847,3.81) 84(51.117,1.27) 85(52.387,3.81) 86(53.657,1.27) 87(54.927,3.81) 88(56.197,1.27) 89(57.468,3.81) 90(58.737,1.27) 91(60.008,3.81) 92(61.277,1.27) 93(-59.372,-1.27) 94(-58.102,-3.81) 95(-56.832,-1.27) 96(-55.562,-3.81) 97(-54.292,-1.27) 98(-53.023,-3.81) 99(-51.752,-1.27) 100(-50.482,-3.81) 101(-49.212,-1.27) 102(-47.942,-3.81) 103(-46.672,-1.27) 104(-45.402,-3.81) 105(-44.133,-1.27) 106(-42.862,-3.81) 107(-41.593,-1.27) 108(-40.322,-3.81) 109(-39.052,-1.27) 110(-37.782,-3.81) 111(-36.512,-1.27) 112(-35.242,-3.81) 113(-33.972,-1.27) 114(-32.703,-3.81) 115(-31.432,-1.27) 116(-30.162,-3.81) 117(-28.892,-1.27) 118(-27.622,-3.81) 119(-26.352,-1.27) 120(-25.082,-3.81) 121(-23.812,-1.27) 122(-22.543,-3.81) 123(-21.273,-1.27) 124(-20.002,-3.81) 125(-16.192,-1.27) 126(-14.922,-3.81) 127(-13.652,-1.27) 128(-12.383,-3.81) 129(-11.112,-1.27) 130(-9.842,-3.81) 131(-8.572,-1.27) 132(-7.302,-3.81) 133(-6.032,-1.27) 134(-4.763,-3.81) 135(-3.492,-1.27) 136(-2.222,-3.81) 137(-0.953,-1.27) 138(0.318,-3.81) 139(1.587,-1.27) 140(2.857,-3.81) 141(4.127,-1.27) 142(5.397,-3.81) 143(6.667,-1.27) 144(7.938,-3.81) 145(9.207,-1.27) 146(10.477,-3.81) 147(11.747,-1.27) 148(13.018,-3.81) 149(14.287,-1.27) 150(15.557,-3.81) 151(16.828,-1.27) 152(18.098,-3.81) 153(19.367,-1.27) 154(20.637,-3.81) 155(21.907,-1.27) 156(23.177,-3.81) 157(24.447,-1.27) 158(25.717,-3.81) 159(26.987,-1.27) 160(28.258,-3.81) 161(29.527,-1.27) 162(30.797,-3.81) 163(32.067,-1.27) 164(33.337,-3.81) 165(34.608,-1.27) 166(35.877,-3.81) 167(37.148,-1.27) 168(38.417,-3.81) 169(39.688,-1.27) 170(40.957,-3.81) 171(42.227,-1.27) 172(43.497,-3.81) 173(44.767,-1.27) 174(48.578,-3.81) 175(49.847,-1.27) 176(51.117,-3.81) 177(52.387,-1.27) 178(53.657,-3.81) 179(54.927,-1.27) 180(56.197,-3.81) 181(57.468,-1.27) 182(58.737,-3.81) 183(60.008,-1.27) 184(61.277,-3.81)
  round 2.56 hole 2.44: 185(-61.277,0) 186(-18.098,0) 187(46.672,0)
Top Overlay:
  lines w0.2: -64,-5.26 -64,5.26 64,5.26 64,-5.26 -64,-5.26
  text "92" at 60.027,5.735 h1.5
  text "184" at 59.778,-7.235 h1.5
  text "93" at -60.623,-7.235 h1.5
  text "1" at -59.622,5.735 h1.5

## 145168-4 [mm] "Connector; Card Edge .050 Series PCI; 2x92 Position; 64-Bit Bus"
height 15.74
pads (187):
  rect 1.62x1.62 hole 1.02: 1(-59.372,3.81)
  round 1.62 hole 1.02: 2(-58.102,1.27) 3(-56.832,3.81) 4(-55.562,1.27) 5(-54.292,3.81) 6(-53.023,1.27) 7(-51.752,3.81) 8(-50.482,1.27) 9(-49.212,3.81) 10(-47.942,1.27) 11(-46.672,3.81) 12(-45.402,1.27) 13(-44.133,3.81) 14(-42.862,1.27) 15(-41.593,3.81) 16(-40.322,1.27) 17(-39.052,3.81) 18(-37.782,1.27) 19(-36.512,3.81) 20(-35.242,1.27) 21(-33.972,3.81) 22(-32.703,1.27) 23(-31.432,3.81) 24(-30.162,1.27) 25(-28.892,3.81) 26(-27.622,1.27) 27(-26.352,3.81) 28(-25.082,1.27) 29(-23.812,3.81) 30(-22.543,1.27) 31(-21.273,3.81) 32(-20.002,1.27) 33(-16.192,3.81) 34(-14.922,1.27) 35(-13.652,3.81) 36(-12.383,1.27) 37(-11.112,3.81) 38(-9.842,1.27) 39(-8.572,3.81) 40(-7.302,1.27) 41(-6.032,3.81) 42(-4.763,1.27) 43(-3.492,3.81) 44(-2.222,1.27) 45(-0.953,3.81) 46(0.318,1.27) 47(1.587,3.81) 48(2.857,1.27) 49(4.127,3.81) 50(5.397,1.27) 51(6.667,3.81) 52(7.938,1.27) 53(9.207,3.81) 54(10.477,1.27) 55(11.747,3.81) 56(13.018,1.27) 57(14.287,3.81) 58(15.557,1.27) 59(16.828,3.81) 60(18.098,1.27) 61(19.367,3.81) 62(20.637,1.27) 63(21.907,3.81) 64(23.177,1.27) 65(24.447,3.81) 66(25.717,1.27) 67(26.987,3.81) 68(28.258,1.27) 69(29.527,3.81) 70(30.797,1.27) 71(32.067,3.81) 72(33.337,1.27) 73(34.608,3.81) 74(35.877,1.27) 75(37.148,3.81) 76(38.417,1.27) 77(39.688,3.81) 78(40.957,1.27) 79(42.227,3.81) 80(43.497,1.27) 81(44.767,3.81) 82(48.578,1.27) 83(49.847,3.81) 84(51.117,1.27) 85(52.387,3.81) 86(53.657,1.27) 87(54.927,3.81) 88(56.197,1.27) 89(57.468,3.81) 90(58.737,1.27) 91(60.008,3.81) 92(61.277,1.27) 93(-59.372,-1.27) 94(-58.102,-3.81) 95(-56.832,-1.27) 96(-55.562,-3.81) 97(-54.292,-1.27) 98(-53.023,-3.81) 99(-51.752,-1.27) 100(-50.482,-3.81) 101(-49.212,-1.27) 102(-47.942,-3.81) 103(-46.672,-1.27) 104(-45.402,-3.81) 105(-44.133,-1.27) 106(-42.862,-3.81) 107(-41.593,-1.27) 108(-40.322,-3.81) 109(-39.052,-1.27) 110(-37.782,-3.81) 111(-36.512,-1.27) 112(-35.242,-3.81) 113(-33.972,-1.27) 114(-32.703,-3.81) 115(-31.432,-1.27) 116(-30.162,-3.81) 117(-28.892,-1.27) 118(-27.622,-3.81) 119(-26.352,-1.27) 120(-25.082,-3.81) 121(-23.812,-1.27) 122(-22.543,-3.81) 123(-21.273,-1.27) 124(-20.002,-3.81) 125(-16.192,-1.27) 126(-14.922,-3.81) 127(-13.652,-1.27) 128(-12.383,-3.81) 129(-11.112,-1.27) 130(-9.842,-3.81) 131(-8.572,-1.27) 132(-7.302,-3.81) 133(-6.032,-1.27) 134(-4.763,-3.81) 135(-3.492,-1.27) 136(-2.222,-3.81) 137(-0.953,-1.27) 138(0.318,-3.81) 139(1.587,-1.27) 140(2.857,-3.81) 141(4.127,-1.27) 142(5.397,-3.81) 143(6.667,-1.27) 144(7.938,-3.81) 145(9.207,-1.27) 146(10.477,-3.81) 147(11.747,-1.27) 148(13.018,-3.81) 149(14.287,-1.27) 150(15.557,-3.81) 151(16.828,-1.27) 152(18.098,-3.81) 153(19.367,-1.27) 154(20.637,-3.81) 155(21.907,-1.27) 156(23.177,-3.81) 157(24.447,-1.27) 158(25.717,-3.81) 159(26.987,-1.27) 160(28.258,-3.81) 161(29.527,-1.27) 162(30.797,-3.81) 163(32.067,-1.27) 164(33.337,-3.81) 165(34.608,-1.27) 166(35.877,-3.81) 167(37.148,-1.27) 168(38.417,-3.81) 169(39.688,-1.27) 170(40.957,-3.81) 171(42.227,-1.27) 172(43.497,-3.81) 173(44.767,-1.27) 174(48.578,-3.81) 175(49.847,-1.27) 176(51.117,-3.81) 177(52.387,-1.27) 178(53.657,-3.81) 179(54.927,-1.27) 180(56.197,-3.81) 181(57.468,-1.27) 182(58.737,-3.81) 183(60.008,-1.27) 184(61.277,-3.81)
  round 2.56 hole 2.44: 185(-61.277,0) 186(-18.098,0) 187(46.672,0)
Top Overlay:
  lines w0.2: -64,-5.26 -64,5.26 64,5.26 64,-5.26 -64,-5.26
  text "92" at 60.027,5.735 h1.5
  text "184" at 59.778,-7.235 h1.5
  text "93" at -60.623,-7.235 h1.5
  text "1" at -59.622,5.735 h1.5

## 145168-8 [mm] "Connector; Card Edge .050 Series PCI; 2x92 Position; 64-Bit Bus"
height 15.74
pads (187):
  rect 1.62x1.62 hole 1.02: 1(-59.372,3.81)
  round 1.62 hole 1.02: 2(-58.102,1.27) 3(-56.832,3.81) 4(-55.562,1.27) 5(-54.292,3.81) 6(-53.023,1.27) 7(-51.752,3.81) 8(-50.482,1.27) 9(-49.212,3.81) 10(-47.942,1.27) 11(-46.672,3.81) 12(-45.402,1.27) 13(-44.133,3.81) 14(-42.862,1.27) 15(-41.593,3.81) 16(-40.322,1.27) 17(-39.052,3.81) 18(-37.782,1.27) 19(-36.512,3.81) 20(-35.242,1.27) 21(-33.972,3.81) 22(-32.703,1.27) 23(-31.432,3.81) 24(-30.162,1.27) 25(-28.892,3.81) 26(-27.622,1.27) 27(-26.352,3.81) 28(-25.082,1.27) 29(-23.812,3.81) 30(-22.543,1.27) 31(-21.273,3.81) 32(-20.002,1.27) 33(-16.192,3.81) 34(-14.922,1.27) 35(-13.652,3.81) 36(-12.383,1.27) 37(-11.112,3.81) 38(-9.842,1.27) 39(-8.572,3.81) 40(-7.302,1.27) 41(-6.032,3.81) 42(-4.763,1.27) 43(-3.492,3.81) 44(-2.222,1.27) 45(-0.953,3.81) 46(0.318,1.27) 47(1.587,3.81) 48(2.857,1.27) 49(4.127,3.81) 50(5.397,1.27) 51(6.667,3.81) 52(7.938,1.27) 53(9.207,3.81) 54(10.477,1.27) 55(11.747,3.81) 56(13.018,1.27) 57(14.287,3.81) 58(15.557,1.27) 59(16.828,3.81) 60(18.098,1.27) 61(19.367,3.81) 62(20.637,1.27) 63(21.907,3.81) 64(23.177,1.27) 65(24.447,3.81) 66(25.717,1.27) 67(26.987,3.81) 68(28.258,1.27) 69(29.527,3.81) 70(30.797,1.27) 71(32.067,3.81) 72(33.337,1.27) 73(34.608,3.81) 74(35.877,1.27) 75(37.148,3.81) 76(38.417,1.27) 77(39.688,3.81) 78(40.957,1.27) 79(42.227,3.81) 80(43.497,1.27) 81(44.767,3.81) 82(48.578,1.27) 83(49.847,3.81) 84(51.117,1.27) 85(52.387,3.81) 86(53.657,1.27) 87(54.927,3.81) 88(56.197,1.27) 89(57.468,3.81) 90(58.737,1.27) 91(60.008,3.81) 92(61.277,1.27) 93(-59.372,-1.27) 94(-58.102,-3.81) 95(-56.832,-1.27) 96(-55.562,-3.81) 97(-54.292,-1.27) 98(-53.023,-3.81) 99(-51.752,-1.27) 100(-50.482,-3.81) 101(-49.212,-1.27) 102(-47.942,-3.81) 103(-46.672,-1.27) 104(-45.402,-3.81) 105(-44.133,-1.27) 106(-42.862,-3.81) 107(-41.593,-1.27) 108(-40.322,-3.81) 109(-39.052,-1.27) 110(-37.782,-3.81) 111(-36.512,-1.27) 112(-35.242,-3.81) 113(-33.972,-1.27) 114(-32.703,-3.81) 115(-31.432,-1.27) 116(-30.162,-3.81) 117(-28.892,-1.27) 118(-27.622,-3.81) 119(-26.352,-1.27) 120(-25.082,-3.81) 121(-23.812,-1.27) 122(-22.543,-3.81) 123(-21.273,-1.27) 124(-20.002,-3.81) 125(-16.192,-1.27) 126(-14.922,-3.81) 127(-13.652,-1.27) 128(-12.383,-3.81) 129(-11.112,-1.27) 130(-9.842,-3.81) 131(-8.572,-1.27) 132(-7.302,-3.81) 133(-6.032,-1.27) 134(-4.763,-3.81) 135(-3.492,-1.27) 136(-2.222,-3.81) 137(-0.953,-1.27) 138(0.318,-3.81) 139(1.587,-1.27) 140(2.857,-3.81) 141(4.127,-1.27) 142(5.397,-3.81) 143(6.667,-1.27) 144(7.938,-3.81) 145(9.207,-1.27) 146(10.477,-3.81) 147(11.747,-1.27) 148(13.018,-3.81) 149(14.287,-1.27) 150(15.557,-3.81) 151(16.828,-1.27) 152(18.098,-3.81) 153(19.367,-1.27) 154(20.637,-3.81) 155(21.907,-1.27) 156(23.177,-3.81) 157(24.447,-1.27) 158(25.717,-3.81) 159(26.987,-1.27) 160(28.258,-3.81) 161(29.527,-1.27) 162(30.797,-3.81) 163(32.067,-1.27) 164(33.337,-3.81) 165(34.608,-1.27) 166(35.877,-3.81) 167(37.148,-1.27) 168(38.417,-3.81) 169(39.688,-1.27) 170(40.957,-3.81) 171(42.227,-1.27) 172(43.497,-3.81) 173(44.767,-1.27) 174(48.578,-3.81) 175(49.847,-1.27) 176(51.117,-3.81) 177(52.387,-1.27) 178(53.657,-3.81) 179(54.927,-1.27) 180(56.197,-3.81) 181(57.468,-1.27) 182(58.737,-3.81) 183(60.008,-1.27) 184(61.277,-3.81)
  round 2.56 hole 2.44: 185(-61.277,0) 186(-18.098,0) 187(46.672,0)
Top Overlay:
  lines w0.2: -64,-5.26 -64,5.26 64,5.26 64,-5.26 -64,-5.26
  text "92" at 60.027,5.735 h1.5
  text "184" at 59.778,-7.235 h1.5
  text "93" at -60.623,-7.235 h1.5
  text "1" at -59.622,5.735 h1.5

## 145169-1 [mm] "Connector; Card Edge .050 Series PCI; 2x92 Position; 64-Bit Bus"
height 15.74
pads (187):
  rect 1.62x1.62 hole 1.02: 1(-60.325,3.81)
  round 1.62 hole 1.02: 2(-59.055,1.27) 3(-57.785,3.81) 4(-56.515,1.27) 5(-55.245,3.81) 6(-53.975,1.27) 7(-52.705,3.81) 8(-51.435,1.27) 9(-50.165,3.81) 10(-48.895,1.27) 11(-47.625,3.81) 12(-46.355,1.27) 13(-45.085,3.81) 14(-43.815,1.27) 15(-42.545,3.81) 16(-41.275,1.27) 17(-40.005,3.81) 18(-38.735,1.27) 19(-37.465,3.81) 20(-36.195,1.27) 21(-34.925,3.81) 22(-33.655,1.27) 23(-32.385,3.81) 24(-31.115,1.27) 25(-29.845,3.81) 26(-28.575,1.27) 27(-27.305,3.81) 28(-26.035,1.27) 29(-24.765,3.81) 30(-23.495,1.27) 31(-22.225,3.81) 32(-20.955,1.27) 33(-17.145,3.81) 34(-15.875,1.27) 35(-14.605,3.81) 36(-13.335,1.27) 37(-12.065,3.81) 38(-10.795,1.27) 39(-9.525,3.81) 40(-8.255,1.27) 41(-6.985,3.81) 42(-5.715,1.27) 43(-4.445,3.81) 44(-0.635,1.27) 45(0.635,3.81) 46(1.905,1.27) 47(3.175,3.81) 48(4.445,1.27) 49(5.715,3.81) 50(6.985,1.27) 51(8.255,3.81) 52(9.525,1.27) 53(10.795,3.81) 54(12.065,1.27) 55(13.335,3.81) 56(14.605,1.27) 57(15.875,3.81) 58(17.145,1.27) 59(18.415,3.81) 60(19.685,1.27) 61(20.955,3.81) 62(22.225,1.27) 63(23.495,3.81) 64(24.765,1.27) 65(26.035,3.81) 66(27.305,1.27) 67(28.575,3.81) 68(29.845,1.27) 69(31.115,3.81) 70(32.385,1.27) 71(33.655,3.81) 72(34.925,1.27) 73(36.195,3.81) 74(37.465,1.27) 75(38.735,3.81) 76(40.005,1.27) 77(41.275,3.81) 78(42.545,1.27) 79(43.815,3.81) 80(45.085,1.27) 81(46.355,3.81) 82(47.625,1.27) 83(48.895,3.81) 84(50.165,1.27) 85(51.435,3.81) 86(52.705,1.27) 87(53.975,3.81) 88(55.245,1.27) 89(56.515,3.81) 90(57.785,1.27) 91(59.055,3.81) 92(60.325,1.27) 93(-60.325,-1.27) 94(-59.055,-3.81) 95(-57.785,-1.27) 96(-56.515,-3.81) 97(-55.245,-1.27) 98(-53.975,-3.81) 99(-52.705,-1.27) 100(-51.435,-3.81) 101(-50.165,-1.27) 102(-48.895,-3.81) 103(-47.625,-1.27) 104(-46.355,-3.81) 105(-45.085,-1.27) 106(-43.815,-3.81) 107(-42.545,-1.27) 108(-41.275,-3.81) 109(-40.005,-1.27) 110(-38.735,-3.81) 111(-37.465,-1.27) 112(-36.195,-3.81) 113(-34.925,-1.27) 114(-33.655,-3.81) 115(-32.385,-1.27) 116(-31.115,-3.81) 117(-29.845,-1.27) 118(-28.575,-3.81) 119(-27.305,-1.27) 120(-26.035,-3.81) 121(-24.765,-1.27) 122(-23.495,-3.81) 123(-22.225,-1.27) 124(-20.955,-3.81) 125(-17.145,-1.27) 126(-15.875,-3.81) 127(-14.605,-1.27) 128(-13.335,-3.81) 129(-12.065,-1.27) 130(-10.795,-3.81) 131(-9.525,-1.27) 132(-8.255,-3.81) 133(-6.985,-1.27) 134(-5.715,-3.81) 135(-4.445,-1.27) 136(-0.635,-3.81) 137(0.635,-1.27) 138(1.905,-3.81) 139(3.175,-1.27) 140(4.445,-3.81) 141(5.715,-1.27) 142(6.985,-3.81) 143(8.255,-1.27) 144(9.525,-3.81) 145(10.795,-1.27) 146(12.065,-3.81) 147(13.335,-1.27) 148(14.605,-3.81) 149(15.875,-1.27) 150(17.145,-3.81) 151(18.415,-1.27) 152(19.685,-3.81) 153(20.955,-1.27) 154(22.225,-3.81) 155(23.495,-1.27) 156(24.765,-3.81) 157(26.035,-1.27) 158(27.305,-3.81) 159(28.575,-1.27) 160(29.845,-3.81) 161(31.115,-1.27) 162(32.385,-3.81) 163(33.655,-1.27) 164(34.925,-3.81) 165(36.195,-1.27) 166(37.465,-3.81) 167(38.735,-1.27) 168(40.005,-3.81) 169(41.275,-1.27) 170(42.545,-3.81) 171(43.815,-1.27) 172(45.085,-3.81) 173(46.355,-1.27) 174(47.625,-3.81) 175(48.895,-1.27) 176(50.165,-3.81) 177(51.435,-1.27) 178(52.705,-3.81) 179(53.975,-1.27) 180(55.245,-3.81) 181(56.515,-1.27) 182(57.785,-3.81) 183(59.055,-1.27) 184(60.325,-3.81)
  round 2.56 hole 2.44: 185(-62.23,0) 186(-2.54,0) 187(62.23,0)
Top Overlay:
  lines w0.2: -64.01,-5.26 -64.01,5.26 64.01,5.26 64.01,-5.26 -64.01,-5.26
  text "1" at -60.575,5.735 h1.5
  text "93" at -61.575,-7.235 h1.5
  text "184" at 58.825,-7.235 h1.5
  text "92" at 59.075,5.735 h1.5

## 145169-2 [mm] "Connector; Card Edge .050 Series PCI; 2x92 Position; 64-Bit Bus"
height 15.74
pads (187):
  rect 1.62x1.62 hole 1.02: 1(-60.325,3.81)
  round 1.62 hole 1.02: 2(-59.055,1.27) 3(-57.785,3.81) 4(-56.515,1.27) 5(-55.245,3.81) 6(-53.975,1.27) 7(-52.705,3.81) 8(-51.435,1.27) 9(-50.165,3.81) 10(-48.895,1.27) 11(-47.625,3.81) 12(-46.355,1.27) 13(-45.085,3.81) 14(-43.815,1.27) 15(-42.545,3.81) 16(-41.275,1.27) 17(-40.005,3.81) 18(-38.735,1.27) 19(-37.465,3.81) 20(-36.195,1.27) 21(-34.925,3.81) 22(-33.655,1.27) 23(-32.385,3.81) 24(-31.115,1.27) 25(-29.845,3.81) 26(-28.575,1.27) 27(-27.305,3.81) 28(-26.035,1.27) 29(-24.765,3.81) 30(-23.495,1.27) 31(-22.225,3.81) 32(-20.955,1.27) 33(-17.145,3.81) 34(-15.875,1.27) 35(-14.605,3.81) 36(-13.335,1.27) 37(-12.065,3.81) 38(-10.795,1.27) 39(-9.525,3.81) 40(-8.255,1.27) 41(-6.985,3.81) 42(-5.715,1.27) 43(-4.445,3.81) 44(-0.635,1.27) 45(0.635,3.81) 46(1.905,1.27) 47(3.175,3.81) 48(4.445,1.27) 49(5.715,3.81) 50(6.985,1.27) 51(8.255,3.81) 52(9.525,1.27) 53(10.795,3.81) 54(12.065,1.27) 55(13.335,3.81) 56(14.605,1.27) 57(15.875,3.81) 58(17.145,1.27) 59(18.415,3.81) 60(19.685,1.27) 61(20.955,3.81) 62(22.225,1.27) 63(23.495,3.81) 64(24.765,1.27) 65(26.035,3.81) 66(27.305,1.27) 67(28.575,3.81) 68(29.845,1.27) 69(31.115,3.81) 70(32.385,1.27) 71(33.655,3.81) 72(34.925,1.27) 73(36.195,3.81) 74(37.465,1.27) 75(38.735,3.81) 76(40.005,1.27) 77(41.275,3.81) 78(42.545,1.27) 79(43.815,3.81) 80(45.085,1.27) 81(46.355,3.81) 82(47.625,1.27) 83(48.895,3.81) 84(50.165,1.27) 85(51.435,3.81) 86(52.705,1.27) 87(53.975,3.81) 88(55.245,1.27) 89(56.515,3.81) 90(57.785,1.27) 91(59.055,3.81) 92(60.325,1.27) 93(-60.325,-1.27) 94(-59.055,-3.81) 95(-57.785,-1.27) 96(-56.515,-3.81) 97(-55.245,-1.27) 98(-53.975,-3.81) 99(-52.705,-1.27) 100(-51.435,-3.81) 101(-50.165,-1.27) 102(-48.895,-3.81) 103(-47.625,-1.27) 104(-46.355,-3.81) 105(-45.085,-1.27) 106(-43.815,-3.81) 107(-42.545,-1.27) 108(-41.275,-3.81) 109(-40.005,-1.27) 110(-38.735,-3.81) 111(-37.465,-1.27) 112(-36.195,-3.81) 113(-34.925,-1.27) 114(-33.655,-3.81) 115(-32.385,-1.27) 116(-31.115,-3.81) 117(-29.845,-1.27) 118(-28.575,-3.81) 119(-27.305,-1.27) 120(-26.035,-3.81) 121(-24.765,-1.27) 122(-23.495,-3.81) 123(-22.225,-1.27) 124(-20.955,-3.81) 125(-17.145,-1.27) 126(-15.875,-3.81) 127(-14.605,-1.27) 128(-13.335,-3.81) 129(-12.065,-1.27) 130(-10.795,-3.81) 131(-9.525,-1.27) 132(-8.255,-3.81) 133(-6.985,-1.27) 134(-5.715,-3.81) 135(-4.445,-1.27) 136(-0.635,-3.81) 137(0.635,-1.27) 138(1.905,-3.81) 139(3.175,-1.27) 140(4.445,-3.81) 141(5.715,-1.27) 142(6.985,-3.81) 143(8.255,-1.27) 144(9.525,-3.81) 145(10.795,-1.27) 146(12.065,-3.81) 147(13.335,-1.27) 148(14.605,-3.81) 149(15.875,-1.27) 150(17.145,-3.81) 151(18.415,-1.27) 152(19.685,-3.81) 153(20.955,-1.27) 154(22.225,-3.81) 155(23.495,-1.27) 156(24.765,-3.81) 157(26.035,-1.27) 158(27.305,-3.81) 159(28.575,-1.27) 160(29.845,-3.81) 161(31.115,-1.27) 162(32.385,-3.81) 163(33.655,-1.27) 164(34.925,-3.81) 165(36.195,-1.27) 166(37.465,-3.81) 167(38.735,-1.27) 168(40.005,-3.81) 169(41.275,-1.27) 170(42.545,-3.81) 171(43.815,-1.27) 172(45.085,-3.81) 173(46.355,-1.27) 174(47.625,-3.81) 175(48.895,-1.27) 176(50.165,-3.81) 177(51.435,-1.27) 178(52.705,-3.81) 179(53.975,-1.27) 180(55.245,-3.81) 181(56.515,-1.27) 182(57.785,-3.81) 183(59.055,-1.27) 184(60.325,-3.81)
  round 2.56 hole 2.44: 185(-62.23,0) 186(-2.54,0) 187(62.23,0)
Top Overlay:
  lines w0.2: -64.01,-5.26 -64.01,5.26 64.01,5.26 64.01,-5.26 -64.01,-5.26
  text "1" at -60.575,5.735 h1.5
  text "93" at -61.575,-7.235 h1.5
  text "184" at 58.825,-7.235 h1.5
  text "92" at 59.075,5.735 h1.5

## 145169-4 [mm] "Connector; Card Edge .050 Series PCI; 2x92 Position; 64-Bit Bus"
height 15.74
pads (187):
  rect 1.62x1.62 hole 1.02: 1(-60.325,3.81)
  round 1.62 hole 1.02: 2(-59.055,1.27) 3(-57.785,3.81) 4(-56.515,1.27) 5(-55.245,3.81) 6(-53.975,1.27) 7(-52.705,3.81) 8(-51.435,1.27) 9(-50.165,3.81) 10(-48.895,1.27) 11(-47.625,3.81) 12(-46.355,1.27) 13(-45.085,3.81) 14(-43.815,1.27) 15(-42.545,3.81) 16(-41.275,1.27) 17(-40.005,3.81) 18(-38.735,1.27) 19(-37.465,3.81) 20(-36.195,1.27) 21(-34.925,3.81) 22(-33.655,1.27) 23(-32.385,3.81) 24(-31.115,1.27) 25(-29.845,3.81) 26(-28.575,1.27) 27(-27.305,3.81) 28(-26.035,1.27) 29(-24.765,3.81) 30(-23.495,1.27) 31(-22.225,3.81) 32(-20.955,1.27) 33(-17.145,3.81) 34(-15.875,1.27) 35(-14.605,3.81) 36(-13.335,1.27) 37(-12.065,3.81) 38(-10.795,1.27) 39(-9.525,3.81) 40(-8.255,1.27) 41(-6.985,3.81) 42(-5.715,1.27) 43(-4.445,3.81) 44(-0.635,1.27) 45(0.635,3.81) 46(1.905,1.27) 47(3.175,3.81) 48(4.445,1.27) 49(5.715,3.81) 50(6.985,1.27) 51(8.255,3.81) 52(9.525,1.27) 53(10.795,3.81) 54(12.065,1.27) 55(13.335,3.81) 56(14.605,1.27) 57(15.875,3.81) 58(17.145,1.27) 59(18.415,3.81) 60(19.685,1.27) 61(20.955,3.81) 62(22.225,1.27) 63(23.495,3.81) 64(24.765,1.27) 65(26.035,3.81) 66(27.305,1.27) 67(28.575,3.81) 68(29.845,1.27) 69(31.115,3.81) 70(32.385,1.27) 71(33.655,3.81) 72(34.925,1.27) 73(36.195,3.81) 74(37.465,1.27) 75(38.735,3.81) 76(40.005,1.27) 77(41.275,3.81) 78(42.545,1.27) 79(43.815,3.81) 80(45.085,1.27) 81(46.355,3.81) 82(47.625,1.27) 83(48.895,3.81) 84(50.165,1.27) 85(51.435,3.81) 86(52.705,1.27) 87(53.975,3.81) 88(55.245,1.27) 89(56.515,3.81) 90(57.785,1.27) 91(59.055,3.81) 92(60.325,1.27) 93(-60.325,-1.27) 94(-59.055,-3.81) 95(-57.785,-1.27) 96(-56.515,-3.81) 97(-55.245,-1.27) 98(-53.975,-3.81) 99(-52.705,-1.27) 100(-51.435,-3.81) 101(-50.165,-1.27) 102(-48.895,-3.81) 103(-47.625,-1.27) 104(-46.355,-3.81) 105(-45.085,-1.27) 106(-43.815,-3.81) 107(-42.545,-1.27) 108(-41.275,-3.81) 109(-40.005,-1.27) 110(-38.735,-3.81) 111(-37.465,-1.27) 112(-36.195,-3.81) 113(-34.925,-1.27) 114(-33.655,-3.81) 115(-32.385,-1.27) 116(-31.115,-3.81) 117(-29.845,-1.27) 118(-28.575,-3.81) 119(-27.305,-1.27) 120(-26.035,-3.81) 121(-24.765,-1.27) 122(-23.495,-3.81) 123(-22.225,-1.27) 124(-20.955,-3.81) 125(-17.145,-1.27) 126(-15.875,-3.81) 127(-14.605,-1.27) 128(-13.335,-3.81) 129(-12.065,-1.27) 130(-10.795,-3.81) 131(-9.525,-1.27) 132(-8.255,-3.81) 133(-6.985,-1.27) 134(-5.715,-3.81) 135(-4.445,-1.27) 136(-0.635,-3.81) 137(0.635,-1.27) 138(1.905,-3.81) 139(3.175,-1.27) 140(4.445,-3.81) 141(5.715,-1.27) 142(6.985,-3.81) 143(8.255,-1.27) 144(9.525,-3.81) 145(10.795,-1.27) 146(12.065,-3.81) 147(13.335,-1.27) 148(14.605,-3.81) 149(15.875,-1.27) 150(17.145,-3.81) 151(18.415,-1.27) 152(19.685,-3.81) 153(20.955,-1.27) 154(22.225,-3.81) 155(23.495,-1.27) 156(24.765,-3.81) 157(26.035,-1.27) 158(27.305,-3.81) 159(28.575,-1.27) 160(29.845,-3.81) 161(31.115,-1.27) 162(32.385,-3.81) 163(33.655,-1.27) 164(34.925,-3.81) 165(36.195,-1.27) 166(37.465,-3.81) 167(38.735,-1.27) 168(40.005,-3.81) 169(41.275,-1.27) 170(42.545,-3.81) 171(43.815,-1.27) 172(45.085,-3.81) 173(46.355,-1.27) 174(47.625,-3.81) 175(48.895,-1.27) 176(50.165,-3.81) 177(51.435,-1.27) 178(52.705,-3.81) 179(53.975,-1.27) 180(55.245,-3.81) 181(56.515,-1.27) 182(57.785,-3.81) 183(59.055,-1.27) 184(60.325,-3.81)
  round 2.56 hole 2.44: 185(-62.23,0) 186(-2.54,0) 187(62.23,0)
Top Overlay:
  lines w0.2: -64.01,-5.26 -64.01,5.26 64.01,5.26 64.01,-5.26 -64.01,-5.26
  text "1" at -60.575,5.735 h1.5
  text "93" at -61.575,-7.235 h1.5
  text "184" at 58.825,-7.235 h1.5
  text "92" at 59.075,5.735 h1.5